# EAGLE library part 615008140121 (library SamacSys_Parts)
Wurth Elektronik WR-MJ, 615008 Series Series Number Cat5 8 Way Horizontal PCB Mount STP RJ45 Modular Jack, Socket Source: Datasheet <https://componentsearchengine.com/Datasheets/1/615008140121.pdf>
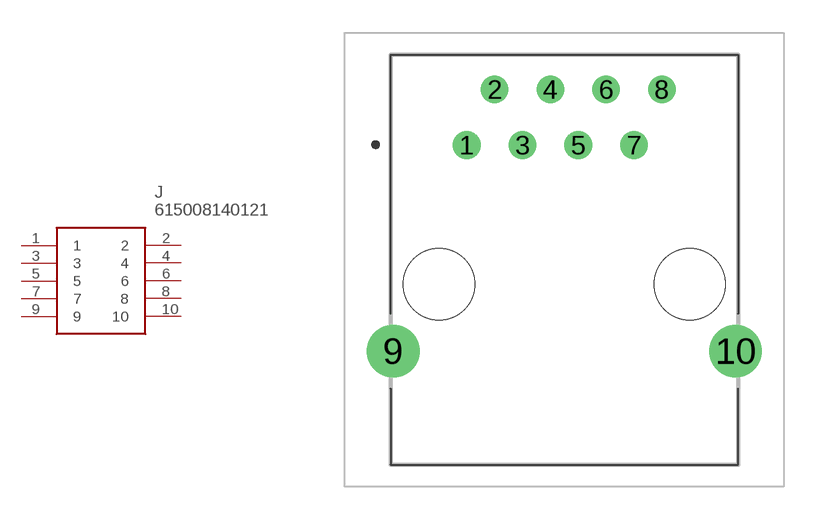
[diagram p1: symbol with the pads of 615008140121; footprint 615008140121]

Designator prefix J

## 615008140121 (Description: Wurth Elektronik WR-MJ, 615008 Series Series Number Cat5 8 Way Horizontal PCB Mount STP RJ45 Modular Jack, Socket; Height: 12mm; Manufacturer_Name: Wurth Elektronik; Manufacturer_Part_Number: 615008140121; Mouser_Part_Number: 710-615008140121)  [615008140121]
1  1
2  2
3  3
4  4
5  5
6  6
7  7
8  8
9  9
10  10

## Footprint 615008140121 (pad centres in mm)
615008140121
drill 0.75 pad 1.2: 1 -4.445,5.23; 2 -3.175,7.77; 3 -1.905,5.23; 4 -0.635,7.77; 5 0.635,5.23; 6 1.905,7.77; 7 3.175,5.23; 8 4.445,7.77
drill 1.6 pad 2.4: 9 -7.8,-4.17; 10 7.8,-4.17
hole 3.25 at -5.715,-1.12
hole 3.25 at 5.715,-1.12